# EAGLE library part MPU-6500 (library rumbleaction_parts_lib)
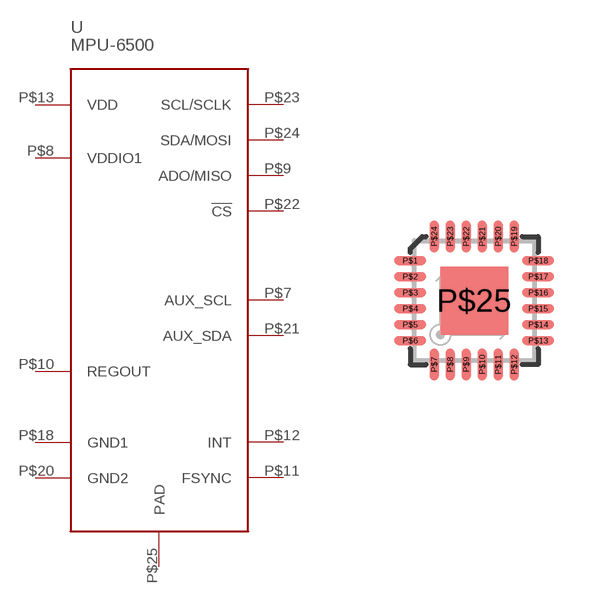
[diagram p5: symbol with the pads of MPU-9X50; footprint MPU-9X50]

Designator prefix -

## MPU-6500  [MPU-9X50]
P$7  AUX_SCL
P$8  VDDIO1  pwr
P$9  ADO/MISO
P$10  REGOUT
P$11  FSYNC
P$12  INT  out
P$13  VDD  pwr
P$18  GND1
P$20  GND2
P$21  AUX_SDA
P$22  !CS  in
P$23  SCL/SCLK
P$24  SDA/MOSI
P$25  PAD

## Footprint MPU-9X50 (pad centres in mm)
smd 0.8 x 0.22: P$1 -1.6,1; P$2 -1.6,0.6; P$3 -1.6,0.2; P$4 -1.6,-0.2; P$5 -1.6,-0.6; P$6 -1.6,-1; P$13 1.6,-1; P$14 1.6,-0.6; P$15 1.6,-0.2; P$16 1.6,0.2; P$17 1.6,0.6; P$18 1.6,1
smd 0.22 x 0.8: P$7 -1,-1.6; P$8 -0.6,-1.6; P$9 -0.2,-1.6; P$10 0.2,-1.6; P$11 0.6,-1.6; P$12 1,-1.6; P$19 1,1.6; P$20 0.6,1.6; P$21 0.2,1.6; P$22 -0.2,1.6; P$23 -0.6,1.6; P$24 -1,1.6
smd 1.7 x 1.7: P$25 0,0